# Altium integrated library PCB_Kursus_Library.IntLib: 26 symbols
Pins are listed as number, name and electrical type; pins without a type are passive.

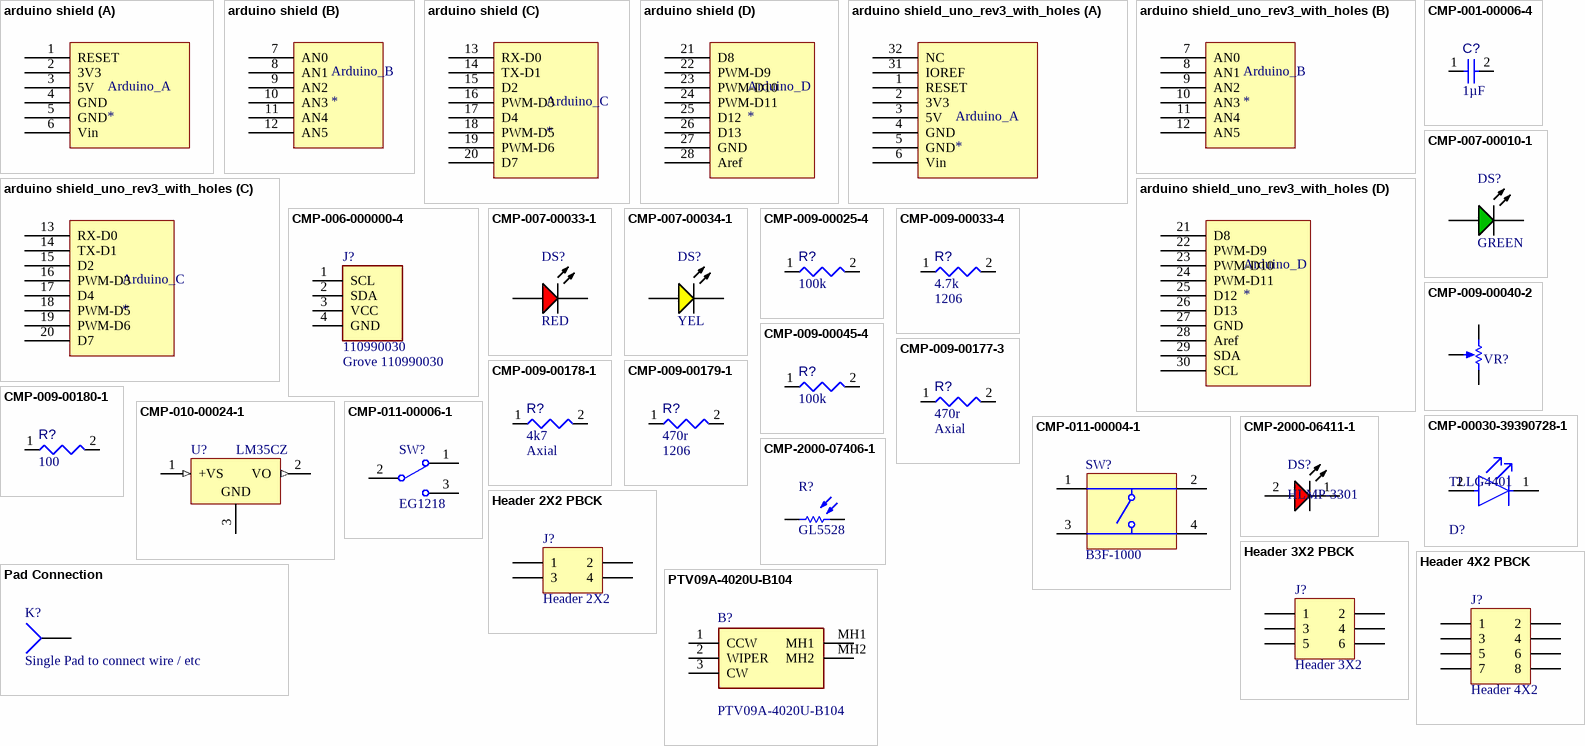
[diagram p0: symbols arduino shield to PTV09A-4020U-B104]

## arduino shield
designator Arduino_
footprint ARDUINO UNO SHIELD
part A pins: 1 RESET, 2 3V3, 3 5V, 4 GND, 5 GND, 6 Vin
part B pins: 7 AN0, 8 AN1, 9 AN2, 10 AN3, 11 AN4, 12 AN5
part C pins: 13 RX-D0, 14 TX-D1, 15 D2, 16 PWM-D3, 17 D4, 18 PWM-D5, 19 PWM-D6, 20 D7
part D pins: 21 D8, 22 PWM-D9, 23 PWM-D10, 24 PWM-D11, 25 D12, 26 D13, 27 GND, 28 Aref

## arduino shield_uno_rev3_with_holes
designator Arduino_
footprint ARDUINO UNO SHIELD WITH 3D MODEL
part A pins: 1 RESET, 2 3V3, 3 5V, 4 GND, 5 GND, 6 Vin, 31 IOREF, 32 NC
part B pins: 7 AN0, 8 AN1, 9 AN2, 10 AN3, 11 AN4, 12 AN5
part C pins: 13 RX-D0, 14 TX-D1, 15 D2, 16 PWM-D3, 17 D4, 18 PWM-D5, 19 PWM-D6, 20 D7
part D pins: 21 D8, 22 PWM-D9, 23 PWM-D10, 24 PWM-D11, 25 D12, 26 D13, 27 GND, 28 Aref, 29 SDA, 30 SCL

## CMP-001-00006-4
designator C?, comment value 1µF  (hidden comment: Capacitor 1 uF +/- 10% 25 V 1206)
Chip Capacitor, 1 uF, +/- 10%, 25 V, 1206 (3216 Metric); Manufacturer: KEMET; Manufacturer Part Number: C1206C105K3RACTU; Manufacturer: Murata; Manufacturer Part Number: GRM31MR71E105KA01L; Manufacturer: Kyocera AVX; Manufacturer Part Number: 12063C105KAT2A; Voltage Rating: 25V; Capacitor Type: Ceramic; RoHS Compliant: True; Pins: 2; Min Operating Temperature: -55°C; Mounting Technology: SM; Max Operating Temperature: 125°C; Tolerance: 10%; Case/Package: 1206; Component Type: Capacitors
footprint CAPC3216X180X20ML20 (Chip Capacitor, 2-Leads, Body 3.40x1.80mm, IPC Low Density)
pins: 1, 2

## CMP-006-000000-4
designator J?, comment 110990030  Check_prices: Grove 110990030
GROVE 2MM 4PIN VERT CONN 10PCS; Manufacturer: Seeed Studio; MF: Seeed Technology; Price: None; MP: 110990030; Pin Count: 4; Source: 110990030.SchLib; Availability: Good; SnapEDA_Link: https://www.snapeda.com/parts/110990030/Seeed%20Technology%20Co.,%20Ltd/view-part/583576/?ref=snap; Component Type: Standard; Mouser-Purchase-URL: https://snapeda.com/shop?store=Mouser&id=583576; Package: None; Value: *; ComponentLink1URL: https://www.snapeda.com/parts/110990030/Seeed%20Technology%20Co.,%20Ltd/view-part/583576/?ref=eda; ComponentLink1Description: Link; Design Item ID: 110990030; Arrow_Electronics-Purchase-URL: https://snapeda.com/shop?store=Arrow+Electronics&id=583576; Manufacturer Part Number: 110990030; Component Type: Connectors
footprint FP-110990030-MFG
pins: 1 SCL, 2 SDA, 3 VCC, 4 GND

## CMP-007-00010-1
designator DS?, comment GREEN
LED Green, 62.5 mW, 25 mA, -40 to 85 degC, 2-Pin THD, RoHS, Bulk; Manufacturer: Kingbright; Manufacturer Part Number: WP7113SGD; Viewing Angle: 30degrees; Forward Voltage: 2.2V; Lens Style: Dome; Power: 62.5mW; Luminous Intensity: 40mcd; Illumination Colour: Green; Datasheet Version: Rev. 6B, 01/2015; Colour: Green; Mounting Technology: TH; Nominal Vf: 2.2V; Package Description: 2-Pin Through Hole Device, Dia 5.9 mm, Body Length 8.6 mm; Package Quantity: 1000; Case/Package: Radial; RoHS Compliant: True; Packaging: Bulk; Package Reference: WP7113SGD; Datasheet URL: http://www.kingbrightusa.com/images/catalog/SPEC/WP7113SGD.pdf; Component Type: LED
footprint KING-WP7113SGD_V (THD, 2-Leads, Dia 5.9mm, Body Length 8.6mm)
pins: 1 A, 2 K

## CMP-007-00033-1
designator DS?, comment RED
The Super Bright Red Source Color Device, 1.85 V, -40 to 85 degC, 2-Pin THD, RoHS, Tape and Reel; Manufacturer: Kingbright; Manufacturer Part Number: WP7113SRD/D; Viewing Angle: 30degrees; Forward Voltage: 1.85V; Luminous Intensity: 300mcd; Lens Style: Diffused; Illumination Colour: Red; Datasheet Version: Rev. 6A, 07/2016; RoHS Compliant: True; Mounting Technology: TH; Package Reference: WP7113SRDD; Case/Package: Radial; Package Quantity: 500; Colour: Red; Packaging: Bulk; Package Description: 2-Pin Through Hole Device, Dia 5.9 mm, Body Length 8.6 mm; Nominal Vf: 1.85V; Datasheet URL: http://www.kingbrightusa.com/images/catalog/SPEC/WP7113SRD-D.pdf; Component Type: LED
footprint KING-WP7113SRDD_V (THD, 2-Leads, Dia 5.9mm, Body Length 8.6mm)
pins: 1 A, 2 K

## CMP-007-00034-1
designator DS?, comment YEL
The Super Bright Yellow Source Color Device, 2 V, -40 to 85 degC, 2-Pin THD, RoHS, Tape and Reel; Manufacturer: Kingbright; Manufacturer Part Number: WP7113SYD; Lens Style: Diffused; Nominal Vf: 2V; Viewing Angle: 30degrees; Forward Current: 20mA; Luminous Intensity: 600mcd; Mounting Technology: TH; Colour: Yellow; Illumination Colour: Yellow; Case/Package: Radial; Forward Voltage: 2V; RoHS Compliant: True; Package Reference: WP7113SYD; Package Description: 2-Pin Through Hole Device, Dia 5.9 mm, Body Length 8.6 mm; Package Quantity: 500; Packaging: Bulk; Datasheet URL: http://www.kingbrightusa.com/images/catalog/SPEC/WP7113SYD.pdf; Datasheet Version: Rev. 7B, 01/2015; Component Type: LED
footprint KING-WP7113SYD_V (THD, 2-Leads, Dia 5.9mm, Body Length 8.6mm)
pins: 1 A, 2 K

## CMP-009-00025-4
designator R?, comment value 100k  (hidden comment: Resistor 100k +/-1% 1206 250 mW)
Chip Resistor, 100 KOhm, +/- 1%, 0.25 W, -55 to 155 degC, 1206 (3216 Metric); Manufacturer: Vishay; Manufacturer Part Number: CRCW1206100KFKEA; Manufacturer: Yageo; Manufacturer Part Number: RC1206FR-07100KL; Manufacturer: Panasonic; Manufacturer Part Number: ERJ-8ENF1003V; Power: 250mW; Voltage Rating: 200V; Case/Package: 1206; Pins: 2; RoHS Compliant: True; Mounting Technology: SM; Tolerance: 1%; Max Operating Temperature: 155°C; Min Operating Temperature: -55°C; Component Type: Resistors
footprint RESC3216X60X45ML15T20 (Chip Resistor, 2-Leads, Body 3.3x1.75mm, IPC Low Density)
pins: 1, 2
1 alternate drawing of the same symbol

## CMP-009-00033-4
designator R?, comment value 4.7k  Case/Package: 1206  (hidden comment: Resistor 4k7 +/-1% 1206 250 mW)
Chip Resistor, 4.7 KOhm, +/- 1%, 0.25 W, -55 to 155 degC, 1206 (3216 Metric); Manufacturer: Panasonic; Manufacturer Part Number: ERJ-8ENF4701V; Manufacturer: Vishay; Manufacturer Part Number: CRCW12064K70FKEA; Voltage Rating: 200V; Power: 250mW; Tolerance: 1%; Mounting Technology: SM; Max Operating Temperature: 155°C; RoHS Compliant: True; Min Operating Temperature: -55°C; Pins: 2; Component Type: Resistors
footprint RESC3116X70X50ML13T20 (Chip Resistor, 2-Leads, Body 3.25x1.65mm, IPC Low Density)
pins: 1, 2
1 alternate drawing of the same symbol

## CMP-009-00040-2
designator VR?, comment 3362P-1-104LF  (value not drawn)
Square Trimpot(R) Trimming Potentiometer, 100 KOhm, 300 V, -55 to 125 degC, 3-Pin THD, RoHS, Tube; Manufacturer: Bourns; Resistance: 100k; Tolerance: 10%; Voltage Rating: 300V; Power: 500mW; Package Quantity: 250; RoHS Compliant: True; Package Reference: 3326P; Mounting Technology: TH; Case/Package: 3326P; Composition: Potentiometer; Datasheet Version: May-16; Manufacturer URL: http://www.bourns.com/; Package Description: 3-Pin Through Hole Device, Body 6.6 x 6.99 mm, Pitch 2.54 mm; Min Operating Temperature: -55°C; Max Operating Temperature: 125°C; Packaging: Rail/Tube; Datasheet URL: http://www.bourns.com/docs/Product-Datasheets/3362.pdf; Lead Pitch: 2.54mm; Manufacturer Part Number: 3362P-1-104LF; Component Type: Resistors
footprint BOUR-3362P (THD, 3-Leads, Body 6.6x6.99mm, Pitch 2.54mm)
pins: 1 CCW, 2 S, 3 CW

## CMP-009-00045-4
designator R?, comment value 100k  (hidden comment: MFR-25FBF52-100K)
Axial Resistor, 100 KOhm, +/- 1%, 0.25 W, -55 to 155 degC, 2-Pin THD, RoHS, Bulk; Manufacturer: Yageo; Power: 250mW; Voltage Rating: 250V; Datasheet URL: http://www.yageo.com/documents/recent/Yageo%20LR_MFR_2013.pdf; Package Quantity: 200; Mounting Technology: TH; Manufacturer URL: http://www.yageo.com/; Package Description: 2-Pin Axial Lead, Dia 2.4 mm, Body Length 6.3 mm; Package Reference: MFR-25; Case/Package: Axial; Max Operating Temperature: 155°C; Datasheet Version: Apr-13; Tolerance: 1%; Packaging: Bulk; Min Operating Temperature: -55°C; RoHS Compliant: True; Manufacturer Part Number: MFR-25FBF52-100K; Component Type: Resistors
footprint RESA60-630X240 (Axial Resistor, 2-Leads, Dia 2.4mm, Body Length 6.3mm)
pins: 1, 2
1 alternate drawing of the same symbol

## CMP-009-00177-3
designator R?, comment value 470r  Case/Package: Axial  (hidden comment: Resistor 470r)
Axial Resistor, 470 Ohm; Mounting Technology: TH; Package Description: 2-Pin Axial Lead, Dia 2.4 mm, Body Length 6.3 mm; Component Type: Resistors
footprint RESA60-630X240 (Axial Resistor, 2-Leads, Dia 2.4mm, Body Length 6.3mm)
pins: 1, 2
1 alternate drawing of the same symbol

## CMP-009-00178-1
designator R?, comment value 4k7  Case/Package: Axial  (hidden comment: 4k7 resistor Axial)
Axial Resistor, 4.7 KOhm; Tolerance: 1%; Package Description: 2-Pin Axial Lead, Dia 2.4 mm, Body Length 6.3 mm; Component Type: Resistors
footprint RESA60-630X240 (Axial Resistor, 2-Leads, Dia 2.4mm, Body Length 6.3mm)
pins: 1, 2
1 alternate drawing of the same symbol

## CMP-009-00179-1
designator R?, comment value 470r  Case/Package: 1206  (hidden comment: Resistor 470r 1206)
Chip Resistor, 470 Ohm, 1206 (3216 Metric); Pins: 2; Mounting Technology: SM; Component Type: Resistors
footprint RESC3116X70X50ML13T20 (Chip Resistor, 2-Leads, Body 3.25x1.65mm, IPC Low Density)
pins: 1, 2
1 alternate drawing of the same symbol

## CMP-009-00180-1
designator R?, comment value 100  (hidden comment: Resistor 100 Ohm 1206)
Chip Resistor, 100 Ohm, +/- 1%, 0.25 W, -55 to 155 degC, 1206 (3216 Metric); Power: 250mW; Voltage Rating: 200V; RoHS Compliant: True; Pins: 2; Case/Package: 1206; Mounting Technology: SM; Min Operating Temperature: -55°C; Tolerance: 1%; Max Operating Temperature: 155°C; Component Type: Resistors
footprint RESC3216X60X45ML15T20 (Chip Resistor, 2-Leads, Body 3.3x1.75mm, IPC Low Density)
pins: 1, 2
1 alternate drawing of the same symbol

## CMP-010-00024-1
designator U?, comment LM35CZ
Analog Voltage Output Sensor, 2C; Manufacturer: TI National Semiconductor; Manufacturer Part Number: LM35CZ; Component Type: Sensors
footprint Z03A (TO, Flat Index; 3 In-Line, Axial Leads; Body Dia. 5mm; Leads 0.55 x 0.50 mm (max))
pins: 1 +VS (in), 2 VO (out), 3 GND (power)

## CMP-011-00004-1
designator SW?, comment B3F-1000
Tactile Switch, SPST-NO, 0.05 A, 24 V, -25 to 70 degC, 4-Pin THD, RoHS, Bulk; Manufacturer: Omron Electronic Components; Manufacturer: Omron; Resistance: 0.1Ohm; Max Current Rating: 50mA; Voltage Rating: 24V; Throw Configuration: SPST; Operating Force: 100gf; Max Contact Resistance: 100mohm; RoHS Compliant: True; Package Description: 4-Pin Through Hole Device, Body 6 x 6 mm; Contact Current Rating: 50mA; Case/Package: B3F-1000; Contact Plating: Gold; Datasheet Version: Jan-15; Datasheet URL: http://www.omron.com/ecb/products/pdf/en-b3f.pdf; Package Reference: B3F-1000; Pins: 4; Package Quantity: 1500; Max Voltage Rating (DC): 24V; Mounting Technology: TH; Voltage Rating (DC): 24V; Min Operating Temperature: -25°C; Max Operating Temperature: 70°C; Current Rating: 50mA; Packaging: Bulk; Manufacturer URL: http://www.omron.com/; Contact Material: Gold; Manufacturer Part Number: B3F-1000; Component Type: Switches
footprint OMRON-B3F-1000-4_V (TH, 4-Leads, Body 6x6mm)
pins: 1, 2, 3, 4

## CMP-011-00006-1
designator SW?, comment EG1218
Slide Switch, SPDT, 500 V, -20 to 70 degC, 3-Pin THD, RoHS, Bulk; Manufacturer: E-Switch; Operating Force: 250gf; Contact Current Rating: 200mA; Current Rating: 2dA; Voltage Rating (DC): 30V; Packaging: Bulk; Max Operating Temperature: 70°C; Contact Material: Copper; Datasheet URL: https://www.e-switch.com/system/asset/product_line/data_sheet/119/EG.pdf; Case/Package: EG1218; Min Operating Temperature: -20°C; Pins: 3; Throw Configuration: SPDT; Package Description: 3-Pin Through Hole Device, Body 11.6 x 4 mm, Pitch 2.5 mm; Voltage Rating (AC): 30V; Package Reference: EG1218; Datasheet Version: Oct-15; Package Quantity: 1000; Mounting Technology: TH; RoHS Compliant: True; Manufacturer URL: http://www.e-switch.ch/en/; Contact Plating: Silver; Contact Finish: Silver; Manufacturer Part Number: EG1218; Component Type: Switches
footprint ESWI-EG1218_V (THD, 3-Leads, Body 11.6x4mm, Pitch 2.5mm)
pins: 1, 2 COM, 3

## CMP-00030-39390728-1
designator D?, comment TLLG4401
TLLG4401 LED, Green, 2mcd, 3mmDia., T-1, +/-25deg, 565nm, 7mA, 1.9V Vf, 20V Vr, 20mW, -40; NexarPartId: 39390728; Test Current: 2mA; Wavelength: 575nm; Number of Elements: 1; Viewing Angle: 25°; Lens Transparency: Diffused; Voltage Rating (DC): 2.4V; Lead Length: 23mm; Max Junction Temperature (Tj): 100°C; Lens Style: Circular, Colored, Diffused, Dome, Round, Tinted; Reverse Voltage: 6V; Forward Voltage: 1.9V; Length: 3.2mm; Forward Current: 2mA; Color: Green; Dominant Wavelength: 575nm; Radiation Hardening: No; Lens Color: Green; REACH SVHC: Unknown; Lead Free: Lead Free; Number of Pins: 2; Luminous Intensity: 2mcd; Schedule B: 8541402000, 8541402000|8541402000|8541402000|8541402000|8541402000; Max Operating Temperature: 100°C; Illumination Color: Green; Mount: Through Hole; Packaging: Bulk; Depth: 3.2mm; Ambient Temperature Range High: 100°C; Case/Package: Radial; Power Dissipation: 20mW; Height: 4.5mm; RoHS: Compliant; Peak Wavelength: 565nm; Min Operating Temperature: -40°C; Number of LEDs: 1
footprint FP-6_544-5255_01-4-MFG
pins: 1 C, 2 A

## CMP-2000-06411-1
designator DS?, comment HLMP-3301
T-1 3/4 (5 mm) Diffused LED Lamp, 1.9 V, -40 to 100 degC, 2-Pin THD, RoHS, Bulk; Manufacturer: Avago; Forward Current: 25mA; Forward Voltage: 2.4V; Peak Wavelength: 635nm; Shape Type: Circular; High Brightness: No; Main Category: StandardLED; Test Current (It): 10mA; Dominant Wave Length: 626nm; Number of  Elements: 1; Reverse Voltage: 5V; Chip Material: GaP; Product Height (mm): 9.19mm; Lens Type: ColoredDiffused; Viewing Angle: 60deg; Type: Uni-Color; Emitting Color: Red; Luminous Intensity: 5.4mcd; Power Dissipation: 85W; DELETED: Compliant; Product Depth (mm): 6.1mm; Package Description: 2-Pin Through Hole LED, Dia 5.85 mm; Mounting Technology: ThroughHole; Manufacturer URL: http://www.avagotech.com/; Package Type: T-13/4; Operating Temp Range: -40Cto100C; Datasheet URL: http://www.avagotech.com/docs/AV02-1558EN; Mounting: ThroughHole; Lens Dimensions: 5.08x5.08x8.3mm; Package Reference: HLMP-3301; Datasheet Version: 03/2015; Pin Count: 2; Packaging: TapeandReel; Operating Temperature Classification: Industrial; Lum Intensity: 5.4mcd; Rad Hardened: No; Product Length (mm): 6.1mm
footprint AVAG-HLMP-3301-2 (THD, 2-Leads, Body Dia 5.85mm)
pins: 1 C, 2 A

## CMP-2000-07406-1
designator R?, comment GL5528
Photoconductive Resistor, 200 kOhm, 100 V, 80 mW, -40 to 75 degC, 2-Pin THD, RoHS; Manufacturer: Excelitas Technology; SVHC: Cadmiumchloride(15-Jun-2015); Power Rating: 80mW; Resistance @ Lux: 12kohm; Voltage Rating: 100V; Product Range: -; Datasheet Version: 09/2006; Resistor Case Style: -; Operating Temperature Max: 75°C; Package Reference: VT90N1; Datasheet URL: http://datasheet.octopart.com/VT90N1-Excelitas-datasheet-10388451.pdf; Mounting Technology: ThroughHole; Operating Temperature Min: -40°C; Dark Resistance: 200kohm; Package Description: 2-Pin Through Hole Device, Body Width 4.17 mm (Max), Height 2.29 mm; Manufacturer URL: http://www.excelitas.com/Pages/Index.aspx; Packaging: Each
footprint EXCE-VT90N1 (THD, 2-Leads, Body Width 4.17mm (Max), Height 2.29mm)
pins: 1, 2

## Header 2X2 PBCK
designator J?, comment Header 2X2
Header, 2-Pin, Dual row; LatestRevisionDate: 17-Jul-2002; LatestRevisionNote: Re-released for DXP Platform.; Publisher: Altium Limited
footprint HDR2X2 PCBK
pins: 1, 2, 3, 4

## Header 3X2 PBCK
designator J?, comment Header 3X2
Header, 3-Pin, Dual row; LatestRevisionDate: 17-Jul-2002; LatestRevisionNote: Re-released for DXP Platform.; Publisher: Altium Limited
footprint HDR2X3 PCBK
pins: 1, 2, 3, 4, 5, 6

## Header 4X2 PBCK
designator J?, comment Header 4X2
Header, 4-Pin, Dual row; LatestRevisionDate: 17-Jul-2002; LatestRevisionNote: Re-released for DXP Platform.; Publisher: Altium Limited
footprint HDR2X4 PCBK
pins: 1, 2, 3, 4, 5, 6, 7, 8

## Pad Connection
designator K?, comment Single Pad to connect wire / etc
LatestRevisionDate: 17-Jul-2002; LatestRevisionNote: Re-released for DXP Platform.; Publisher: Altium Limited
footprint PIN1 PCBK
pins: 1

## PTV09A-4020U-B104
designator B?
Potentiometers PANEL CONTROL - 9MM-ST-CARBON; Manufacturer_Name: Bourns; Geometry.Height: 20.5mm; Manufacturer_Part_Number: PTV09A-4020U-B104
footprint PTV09A4020FB504
pins: 1 CCW, 2 WIPER, 3 CW, MH1, MH2